# EAGLE library part 14D- (library Chips)
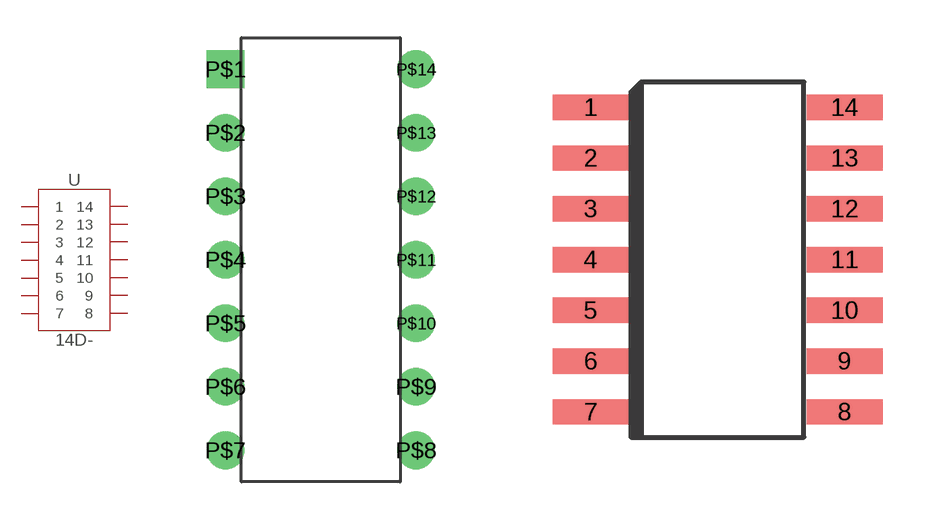
[diagram p2: symbol with the pads of 14DIP; footprints 14DIP, 14SOP_4.4MM]

Designator prefix U

## 14D-DIP  [14DIP]
P$1  1
P$2  2
P$3  3
P$4  4
P$5  5
P$6  6
P$7  7
P$8  8
P$9  9
P$10  10
P$11  11
P$12  12
P$13  13
P$14  14

## 14D-SO_4.4  [14SOP_4.4MM]
1  1
2  2
3  3
4  4
5  5
6  6
7  7
8  8
9  9
10  10
11  11
12  12
13  13
14  14

## 14D-SO_5.6  [14SOP_5.6MM]
Pads as for 14SOP_4.4MM

## 14D-SSOP_4.4  [14SSOP_4.4MM]
Pads as for 14DIP

## 14D-SSOP_5.6  [14SSOP_5.6MM]
Pads as for 14DIP

## Footprint 14DIP (pad centres in mm)
drill 1 square: P$1 -3.81,7.62
drill 1: P$2 -3.81,5.08; P$3 -3.81,2.54; P$4 -3.81,0; P$5 -3.81,-2.54; P$6 -3.81,-5.08; P$7 -3.81,-7.62; P$8 3.81,-7.62; P$9 3.81,-5.08; P$10 3.81,-2.54; P$11 3.81,0; P$12 3.81,2.54; P$13 3.81,5.08; P$14 3.81,7.62

## Footprint 14SOP_4.4MM (pad centres in mm)
smd 1.905 x 0.635: 1 -3.175,3.81; 2 -3.175,2.54; 3 -3.175,1.27; 4 -3.175,0; 5 -3.175,-1.27; 6 -3.175,-2.54; 7 -3.175,-3.81; 8 3.175,-3.81; 9 3.175,-2.54; 10 3.175,-1.27; 11 3.175,0; 12 3.175,1.27; 13 3.175,2.54; 14 3.175,3.81

## Footprint 14SOP_5.6MM (pad centres in mm)
smd 1.905 x 0.635: 1 -3.81,3.81; 2 -3.81,2.54; 3 -3.81,1.27; 4 -3.81,0; 5 -3.81,-1.27; 6 -3.81,-2.54; 7 -3.81,-3.81; 8 3.81,-3.81; 9 3.81,-2.54; 10 3.81,-1.27; 11 3.81,0; 12 3.81,1.27; 13 3.81,2.54; 14 3.81,3.81

## Footprint 14SSOP_4.4MM (pad centres in mm)
smd 1.27 x 0.406: P$1 -3.175,1.905; P$2 -3.175,1.27; P$3 -3.175,0.635; P$4 -3.175,0; P$5 -3.175,-0.635; P$6 -3.175,-1.27; P$7 -3.175,-1.905; P$8 3.175,-1.905; P$9 3.175,-1.27; P$10 3.175,-0.635; P$11 3.175,0; P$12 3.175,0.635; P$13 3.175,1.27; P$14 3.175,1.905

## Footprint 14SSOP_5.6MM (pad centres in mm)
smd 1.27 x 0.406: P$1 -3.81,1.905; P$2 -3.81,1.27; P$3 -3.81,0.635; P$4 -3.81,0; P$5 -3.81,-0.635; P$6 -3.81,-1.27; P$7 -3.81,-1.905; P$8 3.81,-1.905; P$9 3.81,-1.27; P$10 3.81,-0.635; P$11 3.81,0; P$12 3.81,0.635; P$13 3.81,1.27; P$14 3.81,1.905